# Altium integrated library Barrel Jack.IntLib: 1 symbol
Pins are listed as number, name and electrical type; pins without a type are passive.

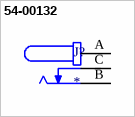
[diagram p0: symbol 54-00132]

## 54-00132
designator J?
Connector, dc jack 5.5x2.5 mm, PCB mount, 90 degrees, silver plated, board lock; MF: Tensility International Corp; MP: 54-00132; Package: None; Price: None; Check_prices: https://www.snapeda.com/parts/54-00132/Tensility+International+Corp/view-part/?ref=eda; Value: *; SnapEDA_Link: https://www.snapeda.com/parts/54-00132/Tensility+International+Corp/view-part/?ref=snap; Availability: In Stock; Purchase-URL: https://pricing.snapeda.com/search?q=54-00132&ref=eda
footprint TENSILITY_54-00132
pins: A, B, C